# Altium schematic symbol library 2.2_TFT.SCHLIB: 4 symbols
Pins are listed as number, name and electrical type; pins without a type are passive.

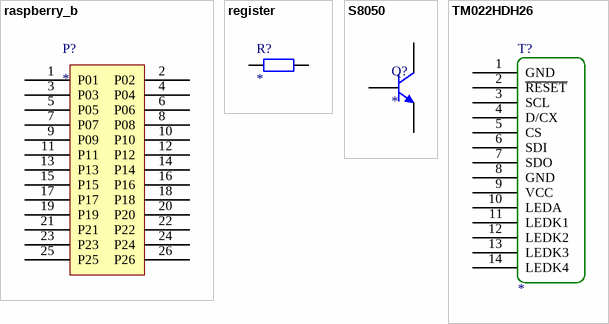
[diagram p0: symbols raspberry_b to TM022HDH26]

## raspberry_b
designator P?
footprint raspberry_b
pins: 1 P01, 2 P02, 3 P03, 4 P04, 5 P05, 6 P06, 7 P07, 8 P08, 9 P09, 10 P10, 11 P11, 12 P12, 13 P13, 14 P14, 15 P15, 16 P16, 17 P17, 18 P18, 19 P19, 20 P20, 21 P21, 22 P22, 23 P23, 24 P24, 25 P25, 26 P26

## register
designator R?
footprint 1206
pins: 1, 2

## S8050
designator Q?
footprint SOT23 - duplicate
pins: 1 E, 2 B, 3 C

## TM022HDH26
designator T?
2.2寸无触摸
footprint TM022HDH26
footprint TM022HDH26
pins: 1 GND, 2 ~{RESET}, 3 SCL, 4 D/CX, 5 CS, 6 SDI, 7 SDO, 8 GND, 9 VCC, 10 LEDA, 11 LEDK1, 12 LEDK2, 13 LEDK3, 14 LEDK4
2 alternate drawings of the same symbol